# Altium footprint library BeaconBoard.PcbLib: 34 footprints (part 2 of 3)
Each footprint in its own frame and in the unit in brackets; x right, y up, seen from the top. Pads: shape width x height; smd on the part's side, far side on the other; paste and mask are expansions set on the pad; w line width, h text height; cw(c..) or ccw(c..) is an arc to the next point about the centre after c.
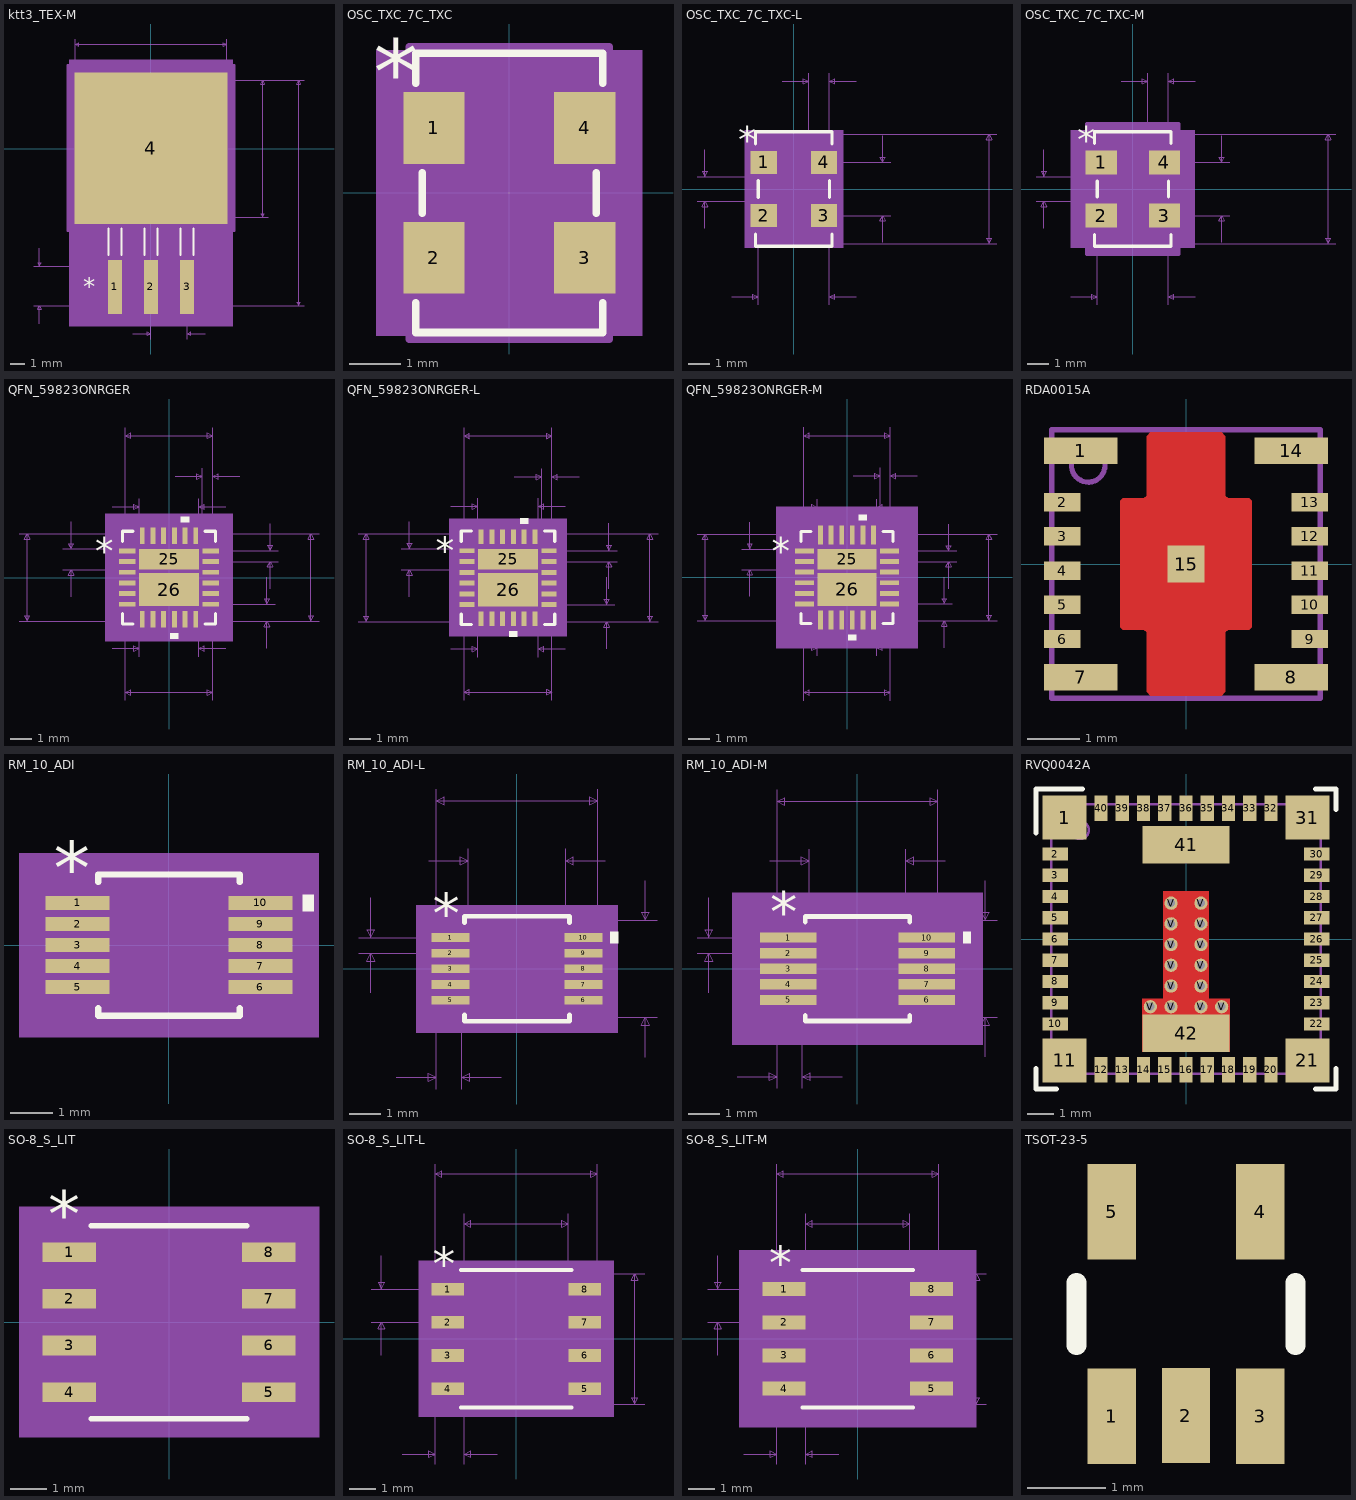
[diagram p1: the footprints below, top view; thin cyan lines are the x and y axes]

## ktt3_TEX-M [mil]
pads (4):
  rect 38x150 smd paste+0 mask+0: 1(-100,-383) 2(0,-383) 3(100,-383)
  rect 424x420 smd paste+0 mask+0: 4(0,2)
Top Overlay:
  lines w6: -118,-294 -118,-221.1 ; -82,-294 -82,-221.1 ; -18,-294 -18,-221.1 ; 18,-294 18,-221.1 ; 82,-294 82,-221.1 ; 118,-294 118,-221.1
  text "*" at -187.5,-408 h50
Mechanical 5:
  region: -227,247 227,247 227,-493 -227,-493
Mechanical 7:
  lines w1: -325,-436 0,-436 425,-436 ; -325,-326 0,-326 ; -310,-486 -310,-436 ; -310,-276 -310,-326 ; -210,0 -210,305 ; -50,-513 0,-513 ; 0,-528 0,-313 ; 0,-190 325,-190 ; 100,-528 100,-313 ; 150,-513 100,-513 ; 210,0 210,305 ; 325,190 0,190 425,190 ; -310,-436 -305,-446 -315,-446 -310,-436 ; -310,-326 -305,-316 -315,-316 -310,-326 ; -210,290 -200,285 -200,295 -210,290 ; -210,290 210,290 ; 0,-513 -10,-518 -10,-508 0,-513 ; 100,-513 110,-518 110,-508 100,-513 ; 210,290 200,285 200,295 210,290 ; 310,-190 315,-180 305,-180 310,-190 ; 310,-190 310,190 ; 310,190 315,180 305,180 310,190 ; 410,-436 415,-426 405,-426 410,-436 ; 410,-436 410,190 ; 410,190 415,180 405,180 410,190
  text "0.1in/2.54mm" at -25,-558 h25
  text "0.11in/2.794mm" at -505,-393.5 h25
  text "0.626in/15.9mm" at 430,-205.5 h25
  text "0.42in/10.668mm" at -93.75,310 h25
  text "0.38in/9.652mm" at 330,-12.5 h25
  text "Alt 2 Padstyle: OX90Y60D30P" at -337.5,-1011 h50
  text "Alt 1 Padstyle: OX60Y90D30P" at -337.5,-936 h50
  text "Large Padstyle: RX424Y420D0T" at -350,-861 h50
  text "Default Padstyle: RX38Y150D0T" at -362.5,-786 h50
Mechanical 13:
  lines w1: -210,-190 -210,190 210,190 210,-190 -210,-190 ; -118,-436 -82,-436 -82,-190 -118,-190 -118,-436 ; -18,-436 18,-436 18,-190 -18,-190 -18,-436 ; 82,-436 118,-436 118,-190 82,-190 82,-436
  text "*" at -112.5,-205 h50
Mechanical 15:
  region: -139,-228 -232,-228 -232,232 232,232 232,-228 139,-228 139,-478 -139,-478
  lines w6: -232,-228 -139,-228 -139,-478 139,-478 139,-228 232,-228 232,232 -232,232 -232,-228
3D body "ktt3_TEX.step": height 67.09, standoff -2.01, extent -209.99,-292.99 210.01,190.12
3D body: height 10, standoff 0, extent 0,0 10,10

## OSC_TXC_7C_TXC [mm]
pads (4):
  rect 1.2x1.4 smd paste+0 mask+0: 1(-1.473,1.27) 2(-1.473,-1.27) 3(1.473,-1.27) 4(1.473,1.27)
Top Overlay:
  lines w0.152: -1.829,-2.149 -1.829,-2.73 1.829,-2.73 1.829,-2.149 ; -1.829,2.149 -1.829,2.73 1.829,2.73 1.829,2.149 ; -1.702,-0.391 -1.702,0.391 ; 1.702,-0.391 1.702,0.391
  text "*" at -2.654,1.74 h1.27
Mechanical 5:
  region: 2.603,-2.794 -2.603,-2.794 -2.603,2.794 2.603,2.794
Mechanical 13:
  lines w0: -1.702,-1.765 ccw(c-1.702,-1.27) -1.702,-0.775 ; -1.702,0.775 ccw(c-1.702,1.27) -1.702,1.765 ; 1.702,-1.765 cw(c1.702,-1.27) 1.702,-0.775 ; 1.702,0.775 cw(c1.702,1.27) 1.702,1.765
  lines w0.025: -1.702,-1.765 -1.702,-2.603 1.702,-2.603 1.702,-1.765 ; -1.702,-0.775 -1.702,0.775 ; -1.702,1.765 -1.702,2.603 1.702,2.603 1.702,1.765 ; -1.702,2.349 -1.448,2.603 ; 1.702,-0.775 1.702,0.775
  text "*" at -1.384,1.105 h1.27
Mechanical 15:
  region: -1.956,-2.07 -2.413,-2.07 -2.413,2.07 -1.956,2.07 -1.956,2.857 1.956,2.857 1.956,2.07 2.413,2.07 2.413,-2.07 1.956,-2.07 1.956,-2.857 -1.956,-2.857
  lines w0.152: -2.413,-2.07 -2.413,2.07 -1.956,2.07 -1.956,2.857 1.956,2.857 1.956,2.07 2.413,2.07 2.413,-2.07 1.956,-2.07 1.956,-2.857 -1.956,-2.857 -1.956,-2.07 -2.413,-2.07
3D body: height 0.25, standoff 0, extent 0,0 0.254,0.254

## OSC_TXC_7C_TXC-L [mil]
pads (4):
  rect 49x43 smd paste+0 mask+0: 1(-56.5,50) 2(-56.5,-50) 3(56.5,-50) 4(56.5,50)
Top Overlay:
  lines w6: -72,-84.6 -72,-107.5 72,-107.5 72,-84.6 ; -72,84.6 -72,107.5 72,107.5 72,84.6 ; -67,-15.4 -67,15.4 ; 67,-15.4 67,15.4
  text "*" at -104.5,68.5 h50
Mechanical 5:
  region: 92.5,-110 -92.5,-110 -92.5,110 92.5,110
Mechanical 7:
  lines w1: -182,-23.5 -67,-23.5 ; -182,23.5 -67,23.5 ; -167,-73.5 -167,-23.5 ; -167,73.5 -167,23.5 ; -117,-202.5 -67,-202.5 ; -67,-217.5 -67,25 ; -22,202.5 28,202.5 ; 28,25 28,217.5 ; 67,-217.5 67,25 67,217.5 ; 67,-102.5 382,-102.5 ; 67,-50 182,-50 ; 67,50 182,50 ; 67,102.5 382,102.5 ; 117,-202.5 67,-202.5 ; 117,202.5 67,202.5 ; 167,-100 167,-50 ; 167,100 167,50 ; -167,-23.5 -162,-33.5 -172,-33.5 -167,-23.5 ; -167,23.5 -162,33.5 -172,33.5 -167,23.5 ; -67,-202.5 -77,-207.5 -77,-197.5 -67,-202.5 ; 28,202.5 18,197.5 18,207.5 28,202.5 ; 67,-202.5 77,-207.5 77,-197.5 67,-202.5 ; 67,202.5 77,197.5 77,207.5 67,202.5 ; 167,-50 172,-60 162,-60 167,-50 ; 167,50 172,60 162,60 167,50 ; 367,-102.5 372,-92.5 362,-92.5 367,-102.5 ; 367,-102.5 367,102.5 ; 367,102.5 372,92.5 362,92.5 367,102.5
  text "0.047in/1.194mm" at -374.5,-12.5 h25
  text "0.205in/5.207mm" at 387,-12.5 h25
  text "0.1in/2.54mm" at 187,-12.5 h25
  text "0.039in/0.991mm" at -46.25,222.5 h25
  text "0.134in/3.404mm" at -93.75,-247.5 h25
  text "Alt 2 Padstyle: OX90Y60D30P" at -337.5,-472.5 h50
  text "Alt 1 Padstyle: OX60Y90D30P" at -337.5,-412.5 h50
  text "Default Padstyle: RX49Y43D0T" at -350,-352.5 h50
Mechanical 13:
  lines w0: -67,-69.5 ccw(c-67,-50) -67,-30.5 ; -67,30.5 ccw(c-67,50) -67,69.5 ; 67,-69.5 cw(c67,-50) 67,-30.5 ; 67,30.5 cw(c67,50) 67,69.5
  lines w1: -67,-69.5 -67,-102.5 67,-102.5 67,-69.5 ; -67,-30.5 -67,30.5 ; -67,69.5 -67,102.5 67,102.5 67,69.5 ; -67,92.5 -57,102.5 ; 67,-30.5 67,30.5
  text "*" at -54.5,43.5 h50
Mechanical 15:
  region: -71,-75.5 -85,-75.5 -85,75.5 -71,75.5 -71,106.5 71,106.5 71,75.5 85,75.5 85,-75.5 71,-75.5 71,-106.5 -71,-106.5
  lines w6: -85,-75.5 -71,-75.5 -71,-106.5 71,-106.5 71,-75.5 85,-75.5 85,75.5 71,75.5 71,106.5 -71,106.5 -71,75.5 -85,75.5 -85,-75.5
3D body: height 10, standoff 0, extent 0,0 10,10

## OSC_TXC_7C_TXC-M [mil]
pads (4):
  rect 59x45 smd paste+0 mask+0: 1(-59.5,50) 2(-59.5,-50) 3(59.5,-50) 4(59.5,50)
Top Overlay:
  lines w6: -72,-85.6 -72,-107.5 72,-107.5 72,-85.6 ; -72,85.6 -72,107.5 72,107.5 72,85.6 ; -67,-14.4 -67,14.4 ; 67,-14.4 67,14.4
  text "*" at -104.5,68.5 h50
Mechanical 5:
  region: 116.5,-110 -116.5,-110 -116.5,110 116.5,110
Mechanical 7:
  lines w1: -182,-23.5 -67,-23.5 ; -182,23.5 -67,23.5 ; -167,-73.5 -167,-23.5 ; -167,73.5 -167,23.5 ; -117,-202.5 -67,-202.5 ; -67,-217.5 -67,25 ; -22,202.5 28,202.5 ; 28,25 28,217.5 ; 67,-217.5 67,25 67,217.5 ; 67,-102.5 382,-102.5 ; 67,-50 182,-50 ; 67,50 182,50 ; 67,102.5 382,102.5 ; 117,-202.5 67,-202.5 ; 117,202.5 67,202.5 ; 167,-100 167,-50 ; 167,100 167,50 ; -167,-23.5 -162,-33.5 -172,-33.5 -167,-23.5 ; -167,23.5 -162,33.5 -172,33.5 -167,23.5 ; -67,-202.5 -77,-207.5 -77,-197.5 -67,-202.5 ; 28,202.5 18,197.5 18,207.5 28,202.5 ; 67,-202.5 77,-207.5 77,-197.5 67,-202.5 ; 67,202.5 77,197.5 77,207.5 67,202.5 ; 167,-50 172,-60 162,-60 167,-50 ; 167,50 172,60 162,60 167,50 ; 367,-102.5 372,-92.5 362,-92.5 367,-102.5 ; 367,-102.5 367,102.5 ; 367,102.5 372,92.5 362,92.5 367,102.5
  text "0.047in/1.194mm" at -374.5,-12.5 h25
  text "0.205in/5.207mm" at 387,-12.5 h25
  text "0.1in/2.54mm" at 187,-12.5 h25
  text "0.039in/0.991mm" at -46.25,222.5 h25
  text "0.134in/3.404mm" at -93.75,-247.5 h25
  text "Alt 2 Padstyle: OX90Y60D30P" at -337.5,-472.5 h50
  text "Alt 1 Padstyle: OX60Y90D30P" at -337.5,-412.5 h50
  text "Default Padstyle: RX59Y45D0T" at -350,-352.5 h50
Mechanical 13:
  lines w0: -67,-69.5 ccw(c-67,-50) -67,-30.5 ; -67,30.5 ccw(c-67,50) -67,69.5 ; 67,-69.5 cw(c67,-50) 67,-30.5 ; 67,30.5 cw(c67,50) 67,69.5
  lines w1: -67,-69.5 -67,-102.5 67,-102.5 67,-69.5 ; -67,-30.5 -67,30.5 ; -67,69.5 -67,102.5 67,102.5 67,69.5 ; -67,92.5 -57,102.5 ; 67,-30.5 67,30.5
  text "*" at -54.5,43.5 h50
Mechanical 15:
  region: -87,-92.5 -109,-92.5 -109,92.5 -87,92.5 -87,122.5 87,122.5 87,92.5 109,92.5 109,-92.5 87,-92.5 87,-122.5 -87,-122.5
  lines w6: -109,-92.5 -87,-92.5 -87,-122.5 87,-122.5 87,-92.5 109,-92.5 109,92.5 87,92.5 87,122.5 -87,122.5 -87,92.5 -109,92.5 -109,-92.5
3D body: height 10, standoff 0, extent 0,0 10,10

## QFN_59823ONRGER [mm]
pads (26):
  rect 0.783x0.229 smd paste+0 mask+0: 1(-1.953,1.25) 2(-1.953,0.75) 3(-1.953,0.25) 4(-1.953,-0.25) 5(-1.953,-0.75) 6(-1.953,-1.25) 13(1.953,-1.25) 14(1.953,-0.75) 15(1.953,-0.25) 16(1.953,0.25) 17(1.953,0.75) 18(1.953,1.25)
  rect 0.229x0.783 smd paste+0 mask+0: 7(-1.25,-1.953) 8(-0.75,-1.953) 9(-0.25,-1.953) 10(0.25,-1.953) 11(0.75,-1.953) 12(1.25,-1.953) 19(1.25,1.953) 20(0.75,1.953) 21(0.25,1.953) 22(-0.25,1.953) 23(-0.75,1.953) 24(-1.25,1.953)
  rect 2.794x0.965 smd paste+0 mask+0: 25(0,0.856)
  rect 2.794x1.549 smd paste+0 mask+0: 26(0,-0.564)
Top Overlay:
  region: 0.941,2.599 0.56,2.599 0.56,2.853 0.941,2.853
  region: 0.44,-2.599 0.059,-2.599 0.059,-2.853 0.44,-2.853
  lines w0.152: -2.172,-1.697 -2.172,-2.172 -1.697,-2.172 ; -2.172,1.697 -2.172,2.172 -1.697,2.172 ; 1.697,-2.172 2.172,-2.172 2.172,-1.697 ; 1.697,2.172 2.172,2.172 2.172,1.697
  text "*" at -3.45,0.615 h1.27
Mechanical 5:
  region: 2.98,-2.98 -2.98,-2.98 -2.98,2.98 2.98,2.98
Mechanical 7:
  lines w0.025: -7.021,-2.045 2.045,-2.045 ; -7.021,2.045 2.045,2.045 2.045,-5.751 ; -4.966,0.374 -1.397,0.374 -1.397,-3.696 ; -4.966,1.339 -1.397,1.339 -1.397,3.696 ; -4.585,-0.896 -4.585,0.374 ; -4.585,2.609 -4.585,1.339 ; -2.667,-3.315 -1.397,-3.315 ; -2.667,3.315 -1.397,3.315 ; -2.045,-5.751 -2.045,2.045 ; -2.045,1.25 -2.045,7.021 ; 0.292,4.735 1.562,4.735 ; 1.25,2.045 7.021,2.045 ; 1.397,-3.696 1.397,0.374 ; 1.397,1.339 1.397,3.696 ; 1.562,1.25 1.562,5.116 ; 1.953,0.75 5.116,0.75 ; 1.953,1.25 5.116,1.25 ; 2.045,-1.25 4.966,-1.25 ; 2.045,5.116 2.045,1.25 2.045,7.021 ; 2.667,-3.315 1.397,-3.315 ; 2.667,3.315 1.397,3.315 ; 3.315,4.735 2.045,4.735 ; 4.585,-3.315 4.585,-2.045 ; 4.585,0.02 4.585,-1.25 ; 4.735,-0.52 4.735,0.75 ; 4.735,2.52 4.735,1.25 ; 4.966,-2.045 1.25,-2.045 7.021,-2.045 ; -6.64,-2.045 -6.513,-1.791 -6.767,-1.791 -6.64,-2.045 ; -6.64,-2.045 -6.64,2.045 ; -6.64,2.045 -6.513,1.791 -6.767,1.791 -6.64,2.045 ; -4.585,0.374 -4.458,0.12 -4.712,0.12 -4.585,0.374 ; -4.585,1.339 -4.458,1.593 -4.712,1.593 -4.585,1.339 ; -2.045,-5.37 -1.791,-5.497 -1.791,-5.243 -2.045,-5.37 ; -2.045,-5.37 2.045,-5.37 ; -2.045,6.64 -1.791,6.513 -1.791,6.767 -2.045,6.64 ; -2.045,6.64 2.045,6.64 ; -1.397,-3.315 -1.651,-3.442 -1.651,-3.188 -1.397,-3.315 ; -1.397,3.315 -1.651,3.188 -1.651,3.442 -1.397,3.315 ; 1.397,-3.315 1.651,-3.442 1.651,-3.188 1.397,-3.315 ; 1.397,3.315 1.651,3.188 1.651,3.442 1.397,3.315 ; 1.562,4.735 1.308,4.608 1.308,4.862 1.562,4.735 ; 2.045,-5.37 1.791,-5.497 1.791,-5.243 2.045,-5.37 ; 2.045,4.735 2.299,4.608 2.299,4.862 2.045,4.735 ; 2.045,6.64 1.791,6.513 1.791,6.767 2.045,6.64 ; 4.585,-2.045 4.712,-2.299 4.458,-2.299 4.585,-2.045 ; 4.585,-1.25 4.712,-0.996 4.458,-0.996 4.585,-1.25 ; 4.735,0.75 4.862,0.496 4.608,0.496 4.735,0.75 ; 4.735,1.25 4.862,1.504 4.608,1.504 4.735,1.25 ; 6.64,-2.045 6.767,-1.791 6.513,-1.791 6.64,-2.045 ; 6.64,-2.045 6.64,2.045 ; 6.64,2.045 6.767,1.791 6.513,1.791 6.64,2.045
  text "0.031in/0.795mm" at 2.203,-1.903 h0.64
  text "-0.11in/-2.794mm" at -2.54,3.823 h0.64
  text "0.038in/0.965mm" at -6.966,-0.508 h0.64
  text "0.11in/2.794mm" at -2.222,-4.458 h0.64
  text "0.161in/4.089mm" at -2.381,-6.513 h0.64
  text "0.161in/4.089mm" at -11.91,-0.318 h0.64
  text "0.161in/4.089mm" at 7.148,-0.318 h0.64
  text "0.161in/4.089mm" at -2.381,7.148 h0.64
  text "0.019in/0.483mm" at -0.578,5.243 h0.64
  text "0.02in/0.5mm" at 2.83,0.683 h0.64
  text "Alt 2 Padstyle: b229_152h76" at -8.572,-20.737 h1.27
  text "Alt 1 Padstyle: b152_229h76" at -8.572,-19.213 h1.27
  text "Heat Tab 2 Padstyle: r279_155" at -9.207,-11.593 h1.27
  text "Heat Tab 1 Padstyle: r279_97" at -8.89,-10.069 h1.27
  text "Default Padstyle: r23_78" at -7.62,-8.545 h1.27
Mechanical 13:
  lines w0.025: -2.045,0.775 -0.775,2.045 ; -2.045,-2.045 -2.045,2.045 2.045,2.045 2.045,-2.045 -2.045,-2.045 ; -2.045,-1.39 -2.045,-1.11 -2.045,-1.39 ; -2.045,-0.89 -2.045,-0.61 -2.045,-0.89 ; -2.045,-0.39 -2.045,-0.11 -2.045,-0.39 ; -2.045,0.11 -2.045,0.39 -2.045,0.11 ; -2.045,0.61 -2.045,0.89 -2.045,0.61 ; -2.045,1.11 -2.045,1.39 -2.045,1.11 ; -1.39,-2.045 -1.11,-2.045 -1.39,-2.045 ; -1.39,2.045 -1.11,2.045 -1.39,2.045 ; -0.89,-2.045 -0.61,-2.045 -0.89,-2.045 ; -0.89,2.045 -0.61,2.045 -0.89,2.045 ; -0.39,-2.045 -0.11,-2.045 -0.39,-2.045 ; -0.39,2.045 -0.11,2.045 -0.39,2.045 ; 0.11,-2.045 0.39,-2.045 0.11,-2.045 ; 0.11,2.045 0.39,2.045 0.11,2.045 ; 0.61,-2.045 0.89,-2.045 0.61,-2.045 ; 0.61,2.045 0.89,2.045 0.61,2.045 ; 1.11,-2.045 1.39,-2.045 1.11,-2.045 ; 1.11,2.045 1.39,2.045 1.11,2.045 ; 2.045,-1.39 2.045,-1.11 2.045,-1.39 ; 2.045,-0.89 2.045,-0.61 2.045,-0.89 ; 2.045,-0.39 2.045,-0.11 2.045,-0.39 ; 2.045,0.11 2.045,0.39 2.045,0.11 ; 2.045,0.61 2.045,0.89 2.045,0.61 ; 2.045,1.11 2.045,1.39 2.045,1.11
  text "*" at -1.092,0.615 h1.27
Mechanical 15:
  region: -1.619,-2.299 -2.299,-2.299 -2.299,-1.619 -2.599,-1.619 -2.599,1.619 -2.299,1.619 -2.299,2.299 -1.619,2.299 -1.619,2.599 1.619,2.599 1.619,2.299 2.299,2.299 2.299,1.619 2.599,1.619 2.599,-1.619 2.299,-1.619 2.299,-2.299 1.619,-2.299 1.619,-2.599 -1.619,-2.599
  lines w0.152: -2.599,-1.619 -2.599,1.619 -2.299,1.619 -2.299,2.299 -1.619,2.299 -1.619,2.599 1.619,2.599 1.619,2.299 2.299,2.299 2.299,1.619 2.599,1.619 2.599,-1.619 2.299,-1.619 2.299,-2.299 1.619,-2.299 1.619,-2.599 -1.619,-2.599 -1.619,-2.299 -2.299,-2.299 -2.299,-1.619 -2.599,-1.619
3D body "QFN_59823ONRGER.step": height 0.99, standoff 0, extent -2.045,-2.045 2.045,2.045
3D body: height 0.25, standoff 0, extent 0,0 0.254,0.254

## QFN_59823ONRGER-L [mm]
pads (26):
  rect 0.683x0.229 smd paste+0 mask+0: 1(-3811.903,-3808.75) 2(-3811.903,-3809.25) 3(-3811.903,-3809.75) 4(-3811.903,-3810.25) 5(-3811.903,-3810.75) 6(-3811.903,-3811.25) 13(-3808.097,-3811.25) 14(-3808.097,-3810.75) 15(-3808.097,-3810.25) 16(-3808.097,-3809.75) 17(-3808.097,-3809.25) 18(-3808.097,-3808.75)
  rect 0.229x0.683 smd paste+0 mask+0: 7(-3811.25,-3811.903) 8(-3810.75,-3811.903) 9(-3810.25,-3811.903) 10(-3809.75,-3811.903) 11(-3809.25,-3811.903) 12(-3808.75,-3811.903) 19(-3808.75,-3808.097) 20(-3809.25,-3808.097) 21(-3809.75,-3808.097) 22(-3810.25,-3808.097) 23(-3810.75,-3808.097) 24(-3811.25,-3808.097)
  rect 2.794x0.965 smd paste+0 mask+0: 25(-3810,-3809.144)
  rect 2.794x1.549 smd paste+0 mask+0: 26(-3810,-3810.564)
Top Overlay:
  region: -3809.059,-3807.501 -3809.44,-3807.501 -3809.44,-3807.247 -3809.059,-3807.247
  region: -3809.56,-3812.499 -3809.941,-3812.499 -3809.941,-3812.753 -3809.56,-3812.753
  lines w0.152: -3812.172,-3811.697 -3812.172,-3812.172 -3811.697,-3812.172 ; -3812.172,-3808.303 -3812.172,-3807.828 -3811.697,-3807.828 ; -3808.303,-3812.172 -3807.828,-3812.172 -3807.828,-3811.697 ; -3808.303,-3807.828 -3807.828,-3807.828 -3807.828,-3808.303
  text "*" at -3813.35,-3809.385 h1.27
Mechanical 5:
  region: -3807.273,-3812.727 -3812.727,-3812.727 -3812.727,-3807.273 -3807.273,-3807.273
Mechanical 7:
  lines w0.025: -3816.971,-3812.045 -3807.955,-3812.045 ; -3816.971,-3807.955 -3807.955,-3807.955 -3807.955,-3815.701 ; -3814.966,-3809.626 -3811.397,-3809.626 -3811.397,-3813.696 ; -3814.966,-3808.661 -3811.397,-3808.661 -3811.397,-3806.304 ; -3814.585,-3810.896 -3814.585,-3809.626 ; -3814.585,-3807.391 -3814.585,-3808.661 ; -3812.667,-3813.315 -3811.397,-3813.315 ; -3812.667,-3806.685 -3811.397,-3806.685 ; -3812.045,-3815.701 -3812.045,-3807.955 ; -3812.045,-3808.75 -3812.045,-3803.029 ; -3809.708,-3805.315 -3808.438,-3805.315 ; -3808.75,-3807.955 -3803.029,-3807.955 ; -3808.603,-3813.696 -3808.603,-3809.626 ; -3808.603,-3808.661 -3808.603,-3806.304 ; -3808.438,-3808.75 -3808.438,-3804.934 ; -3808.097,-3809.25 -3804.934,-3809.25 ; -3808.097,-3808.75 -3804.934,-3808.75 ; -3807.955,-3811.25 -3805.034,-3811.25 ; -3807.955,-3804.934 -3807.955,-3808.75 -3807.955,-3803.029 ; -3807.333,-3813.315 -3808.603,-3813.315 ; -3807.333,-3806.685 -3808.603,-3806.685 ; -3806.685,-3805.315 -3807.955,-3805.315 ; -3805.415,-3813.315 -3805.415,-3812.045 ; -3805.415,-3809.98 -3805.415,-3811.25 ; -3805.315,-3810.52 -3805.315,-3809.25 ; -3805.315,-3807.48 -3805.315,-3808.75 ; -3805.034,-3812.045 -3808.75,-3812.045 -3803.029,-3812.045 ; -3816.59,-3812.045 -3816.463,-3811.791 -3816.717,-3811.791 -3816.59,-3812.045 ; -3816.59,-3812.045 -3816.59,-3807.955 ; -3816.59,-3807.955 -3816.463,-3808.209 -3816.717,-3808.209 -3816.59,-3807.955 ; -3814.585,-3809.626 -3814.458,-3809.88 -3814.712,-3809.88 -3814.585,-3809.626 ; -3814.585,-3808.661 -3814.458,-3808.407 -3814.712,-3808.407 -3814.585,-3808.661 ; -3812.045,-3815.32 -3811.791,-3815.447 -3811.791,-3815.193 -3812.045,-3815.32 ; -3812.045,-3815.32 -3807.955,-3815.32 ; -3812.045,-3803.41 -3811.791,-3803.537 -3811.791,-3803.283 -3812.045,-3803.41 ; -3812.045,-3803.41 -3807.955,-3803.41 ; -3811.397,-3813.315 -3811.651,-3813.442 -3811.651,-3813.188 -3811.397,-3813.315 ; -3811.397,-3806.685 -3811.651,-3806.812 -3811.651,-3806.558 -3811.397,-3806.685 ; -3808.603,-3813.315 -3808.349,-3813.442 -3808.349,-3813.188 -3808.603,-3813.315 ; -3808.603,-3806.685 -3808.349,-3806.812 -3808.349,-3806.558 -3808.603,-3806.685 ; -3808.438,-3805.315 -3808.692,-3805.442 -3808.692,-3805.188 -3808.438,-3805.315 ; -3807.955,-3815.32 -3808.209,-3815.447 -3808.209,-3815.193 -3807.955,-3815.32 ; -3807.955,-3805.315 -3807.701,-3805.442 -3807.701,-3805.188 -3807.955,-3805.315 ; -3807.955,-3803.41 -3808.209,-3803.537 -3808.209,-3803.283 -3807.955,-3803.41 ; -3805.415,-3812.045 -3805.288,-3812.299 -3805.542,-3812.299 -3805.415,-3812.045 ; -3805.415,-3811.25 -3805.288,-3810.996 -3805.542,-3810.996 -3805.415,-3811.25 ; -3805.315,-3809.25 -3805.188,-3809.504 -3805.442,-3809.504 -3805.315,-3809.25 ; -3805.315,-3808.75 -3805.188,-3808.496 -3805.442,-3808.496 -3805.315,-3808.75 ; -3803.41,-3812.045 -3803.283,-3811.791 -3803.537,-3811.791 -3803.41,-3812.045 ; -3803.41,-3812.045 -3803.41,-3807.955 ; -3803.41,-3807.955 -3803.283,-3808.209 -3803.537,-3808.209 -3803.41,-3807.955
  text "0.031in/0.795mm" at -3807.797,-3811.853 h0.64
  text "-0.11in/-2.794mm" at -3812.54,-3806.177 h0.64
  text "0.038in/0.965mm" at -3816.966,-3810.508 h0.64
  text "0.11in/2.794mm" at -3812.222,-3814.458 h0.64
  text "0.161in/4.089mm" at -3812.381,-3816.463 h0.64
  text "0.161in/4.089mm" at -3821.86,-3810.317 h0.64
  text "0.161in/4.089mm" at -3802.902,-3810.317 h0.64
  text "0.161in/4.089mm" at -3812.381,-3802.902 h0.64
  text "0.019in/0.483mm" at -3810.578,-3804.807 h0.64
  text "0.02in/0.5mm" at -3807.22,-3809.317 h0.64
  text "Alt 2 Padstyle: b229_152h76" at -3818.572,-3830.687 h1.27
  text "Alt 1 Padstyle: b152_229h76" at -3818.572,-3829.163 h1.27
  text "Heat Tab 2 Padstyle: r279_155" at -3819.207,-3821.543 h1.27
  text "Heat Tab 1 Padstyle: r279_97" at -3818.89,-3820.019 h1.27
  text "Default Padstyle: r23_68" at -3817.62,-3818.495 h1.27
Mechanical 13:
  lines w0.025: -3812.045,-3809.225 -3810.775,-3807.955 ; -3812.045,-3812.045 -3812.045,-3807.955 -3807.955,-3807.955 -3807.955,-3812.045 -3812.045,-3812.045 ; -3812.045,-3811.39 -3812.045,-3811.11 -3812.045,-3811.39 ; -3812.045,-3810.89 -3812.045,-3810.61 -3812.045,-3810.89 ; -3812.045,-3810.39 -3812.045,-3810.11 -3812.045,-3810.39 ; -3812.045,-3809.89 -3812.045,-3809.61 -3812.045,-3809.89 ; -3812.045,-3809.39 -3812.045,-3809.11 -3812.045,-3809.39 ; -3812.045,-3808.89 -3812.045,-3808.61 -3812.045,-3808.89 ; -3811.39,-3812.045 -3811.11,-3812.045 -3811.39,-3812.045 ; -3811.39,-3807.955 -3811.11,-3807.955 -3811.39,-3807.955 ; -3810.89,-3812.045 -3810.61,-3812.045 -3810.89,-3812.045 ; -3810.89,-3807.955 -3810.61,-3807.955 -3810.89,-3807.955 ; -3810.39,-3812.045 -3810.11,-3812.045 -3810.39,-3812.045 ; -3810.39,-3807.955 -3810.11,-3807.955 -3810.39,-3807.955 ; -3809.89,-3812.045 -3809.61,-3812.045 -3809.89,-3812.045 ; -3809.89,-3807.955 -3809.61,-3807.955 -3809.89,-3807.955 ; -3809.39,-3812.045 -3809.11,-3812.045 -3809.39,-3812.045 ; -3809.39,-3807.955 -3809.11,-3807.955 -3809.39,-3807.955 ; -3808.89,-3812.045 -3808.61,-3812.045 -3808.89,-3812.045 ; -3808.89,-3807.955 -3808.61,-3807.955 -3808.89,-3807.955 ; -3807.955,-3811.39 -3807.955,-3811.11 -3807.955,-3811.39 ; -3807.955,-3810.89 -3807.955,-3810.61 -3807.955,-3810.89 ; -3807.955,-3810.39 -3807.955,-3810.11 -3807.955,-3810.39 ; -3807.955,-3809.89 -3807.955,-3809.61 -3807.955,-3809.89 ; -3807.955,-3809.39 -3807.955,-3809.11 -3807.955,-3809.39 ; -3807.955,-3808.89 -3807.955,-3808.61 -3807.955,-3808.89
  text "*" at -3811.092,-3809.385 h1.27
Mechanical 15:
  region: -3811.466,-3812.146 -3812.146,-3812.146 -3812.146,-3811.466 -3812.346,-3811.466 -3812.346,-3808.534 -3812.146,-3808.534 -3812.146,-3807.854 -3811.466,-3807.854 -3811.466,-3807.654 -3808.534,-3807.654 -3808.534,-3807.854 -3807.854,-3807.854 -3807.854,-3808.534 -3807.654,-3808.534 -3807.654,-3811.466 -3807.854,-3811.466 -3807.854,-3812.146 -3808.534,-3812.146 -3808.534,-3812.346 -3811.466,-3812.346
  lines w0.152: -3812.346,-3811.466 -3812.346,-3808.534 -3812.146,-3808.534 -3812.146,-3807.854 -3811.466,-3807.854 -3811.466,-3807.654 -3808.534,-3807.654 -3808.534,-3807.854 -3807.854,-3807.854 -3807.854,-3808.534 -3807.654,-3808.534 -3807.654,-3811.466 -3807.854,-3811.466 -3807.854,-3812.146 -3808.534,-3812.146 -3808.534,-3812.346 -3811.466,-3812.346 -3811.466,-3812.146 -3812.146,-3812.146 -3812.146,-3811.466 -3812.346,-3811.466
3D body: height 0.25, standoff 0, extent -3810,-3810 -3809.746,-3809.746
3D body "QFN_59823ONRGER.step": height 0.99, standoff 0, extent -3812.045,-3812.045 -3807.955,-3807.955

## QFN_59823ONRGER-M [mm]
pads (26):
  rect 0.883x0.229 smd paste+0 mask+0: 1(-2.003,1.25) 2(-2.003,0.75) 3(-2.003,0.25) 4(-2.003,-0.25) 5(-2.003,-0.75) 6(-2.003,-1.25) 13(2.003,-1.25) 14(2.003,-0.75) 15(2.003,-0.25) 16(2.003,0.25) 17(2.003,0.75) 18(2.003,1.25)
  rect 0.229x0.883 smd paste+0 mask+0: 7(-1.25,-2.003) 8(-0.75,-2.003) 9(-0.25,-2.003) 10(0.25,-2.003) 11(0.75,-2.003) 12(1.25,-2.003) 19(1.25,2.003) 20(0.75,2.003) 21(0.25,2.003) 22(-0.25,2.003) 23(-0.75,2.003) 24(-1.25,2.003)
  rect 2.794x0.965 smd paste+0 mask+0: 25(0,0.856)
  rect 2.794x1.549 smd paste+0 mask+0: 26(0,-0.564)
Top Overlay:
  region: 0.941,2.699 0.56,2.699 0.56,2.953 0.941,2.953
  region: 0.44,-2.699 0.059,-2.699 0.059,-2.953 0.44,-2.953
  lines w0.152: -2.172,-1.697 -2.172,-2.172 -1.697,-2.172 ; -2.172,1.697 -2.172,2.172 -1.697,2.172 ; 1.697,-2.172 2.172,-2.172 2.172,-1.697 ; 1.697,2.172 2.172,2.172 2.172,1.697
  text "*" at -3.55,0.615 h1.27
Mechanical 5:
  region: 3.334,-3.334 -3.334,-3.334 -3.334,3.334 3.334,3.334
Mechanical 7:
  lines w0.025: -7.071,-2.045 2.045,-2.045 ; -7.071,2.045 2.045,2.045 2.045,-5.801 ; -4.966,0.374 -1.397,0.374 -1.397,-3.696 ; -4.966,1.339 -1.397,1.339 -1.397,3.696 ; -4.585,-0.896 -4.585,0.374 ; -4.585,2.609 -4.585,1.339 ; -2.667,-3.315 -1.397,-3.315 ; -2.667,3.315 -1.397,3.315 ; -2.045,-5.801 -2.045,2.045 ; -2.045,1.25 -2.045,7.071 ; 0.292,4.785 1.562,4.785 ; 1.25,2.045 7.071,2.045 ; 1.397,-3.696 1.397,0.374 ; 1.397,1.339 1.397,3.696 ; 1.562,1.25 1.562,5.166 ; 2.003,0.75 5.166,0.75 ; 2.003,1.25 5.166,1.25 ; 2.045,-1.25 4.966,-1.25 ; 2.045,5.166 2.045,1.25 2.045,7.071 ; 2.667,-3.315 1.397,-3.315 ; 2.667,3.315 1.397,3.315 ; 3.315,4.785 2.045,4.785 ; 4.585,-3.315 4.585,-2.045 ; 4.585,0.02 4.585,-1.25 ; 4.785,-0.52 4.785,0.75 ; 4.785,2.52 4.785,1.25 ; 4.966,-2.045 1.25,-2.045 7.071,-2.045 ; -6.69,-2.045 -6.563,-1.791 -6.817,-1.791 -6.69,-2.045 ; -6.69,-2.045 -6.69,2.045 ; -6.69,2.045 -6.563,1.791 -6.817,1.791 -6.69,2.045 ; -4.585,0.374 -4.458,0.12 -4.712,0.12 -4.585,0.374 ; -4.585,1.339 -4.458,1.593 -4.712,1.593 -4.585,1.339 ; -2.045,-5.42 -1.791,-5.547 -1.791,-5.293 -2.045,-5.42 ; -2.045,-5.42 2.045,-5.42 ; -2.045,6.69 -1.791,6.563 -1.791,6.817 -2.045,6.69 ; -2.045,6.69 2.045,6.69 ; -1.397,-3.315 -1.651,-3.442 -1.651,-3.188 -1.397,-3.315 ; -1.397,3.315 -1.651,3.188 -1.651,3.442 -1.397,3.315 ; 1.397,-3.315 1.651,-3.442 1.651,-3.188 1.397,-3.315 ; 1.397,3.315 1.651,3.188 1.651,3.442 1.397,3.315 ; 1.562,4.785 1.308,4.658 1.308,4.912 1.562,4.785 ; 2.045,-5.42 1.791,-5.547 1.791,-5.293 2.045,-5.42 ; 2.045,4.785 2.299,4.658 2.299,4.912 2.045,4.785 ; 2.045,6.69 1.791,6.563 1.791,6.817 2.045,6.69 ; 4.585,-2.045 4.712,-2.299 4.458,-2.299 4.585,-2.045 ; 4.585,-1.25 4.712,-0.996 4.458,-0.996 4.585,-1.25 ; 4.785,0.75 4.912,0.496 4.658,0.496 4.785,0.75 ; 4.785,1.25 4.912,1.504 4.658,1.504 4.785,1.25 ; 6.69,-2.045 6.817,-1.791 6.563,-1.791 6.69,-2.045 ; 6.69,-2.045 6.69,2.045 ; 6.69,2.045 6.817,1.791 6.563,1.791 6.69,2.045
  text "0.031in/0.795mm" at 2.203,-1.953 h0.64
  text "-0.11in/-2.794mm" at -2.54,3.823 h0.64
  text "0.038in/0.965mm" at -6.966,-0.508 h0.64
  text "0.11in/2.794mm" at -2.222,-4.458 h0.64
  text "0.161in/4.089mm" at -2.381,-6.563 h0.64
  text "0.161in/4.089mm" at -11.96,-0.318 h0.64
  text "0.161in/4.089mm" at 7.198,-0.318 h0.64
  text "0.161in/4.089mm" at -2.381,7.198 h0.64
  text "0.019in/0.483mm" at -0.578,5.293 h0.64
  text "0.02in/0.5mm" at 2.88,0.683 h0.64
  text "Alt 2 Padstyle: b229_152h76" at -8.572,-20.787 h1.27
  text "Alt 1 Padstyle: b152_229h76" at -8.572,-19.263 h1.27
  text "Heat Tab 2 Padstyle: r279_155" at -9.207,-11.643 h1.27
  text "Heat Tab 1 Padstyle: r279_97" at -8.89,-10.119 h1.27
  text "Default Padstyle: r23_88" at -7.62,-8.595 h1.27
Mechanical 13:
  lines w0.025: -2.045,0.775 -0.775,2.045 ; -2.045,-2.045 -2.045,2.045 2.045,2.045 2.045,-2.045 -2.045,-2.045 ; -2.045,-1.39 -2.045,-1.11 -2.045,-1.39 ; -2.045,-0.89 -2.045,-0.61 -2.045,-0.89 ; -2.045,-0.39 -2.045,-0.11 -2.045,-0.39 ; -2.045,0.11 -2.045,0.39 -2.045,0.11 ; -2.045,0.61 -2.045,0.89 -2.045,0.61 ; -2.045,1.11 -2.045,1.39 -2.045,1.11 ; -1.39,-2.045 -1.11,-2.045 -1.39,-2.045 ; -1.39,2.045 -1.11,2.045 -1.39,2.045 ; -0.89,-2.045 -0.61,-2.045 -0.89,-2.045 ; -0.89,2.045 -0.61,2.045 -0.89,2.045 ; -0.39,-2.045 -0.11,-2.045 -0.39,-2.045 ; -0.39,2.045 -0.11,2.045 -0.39,2.045 ; 0.11,-2.045 0.39,-2.045 0.11,-2.045 ; 0.11,2.045 0.39,2.045 0.11,2.045 ; 0.61,-2.045 0.89,-2.045 0.61,-2.045 ; 0.61,2.045 0.89,2.045 0.61,2.045 ; 1.11,-2.045 1.39,-2.045 1.11,-2.045 ; 1.11,2.045 1.39,2.045 1.11,2.045 ; 2.045,-1.39 2.045,-1.11 2.045,-1.39 ; 2.045,-0.89 2.045,-0.61 2.045,-0.89 ; 2.045,-0.39 2.045,-0.11 2.045,-0.39 ; 2.045,0.11 2.045,0.39 2.045,0.11 ; 2.045,0.61 2.045,0.89 2.045,0.61 ; 2.045,1.11 2.045,1.39 2.045,1.11
  text "*" at -1.092,0.615 h1.27
Mechanical 15:
  region: -1.873,-2.553 -2.553,-2.553 -2.553,-1.873 -2.953,-1.873 -2.953,1.873 -2.553,1.873 -2.553,2.553 -1.873,2.553 -1.873,2.953 1.873,2.953 1.873,2.553 2.553,2.553 2.553,1.873 2.953,1.873 2.953,-1.873 2.553,-1.873 2.553,-2.553 1.873,-2.553 1.873,-2.953 -1.873,-2.953
  lines w0.152: -2.953,-1.873 -2.953,1.873 -2.553,1.873 -2.553,2.553 -1.873,2.553 -1.873,2.953 1.873,2.953 1.873,2.553 2.553,2.553 2.553,1.873 2.953,1.873 2.953,-1.873 2.553,-1.873 2.553,-2.553 1.873,-2.553 1.873,-2.953 -1.873,-2.953 -1.873,-2.553 -2.553,-2.553 -2.553,-1.873 -2.953,-1.873
3D body "QFN_59823ONRGER.step": height 0.99, standoff 0, extent -2.045,-2.045 2.045,2.045
3D body: height 0.25, standoff 0, extent 0,0 0.254,0.254

## RDA0015A [mm]
pads (15):
  rect 1.4x0.5 smd paste+0 mask+0.051: 1(-2,2.15) 7(-2,-2.15) 8(2,-2.15) 14(2,2.15)
  rect 0.7x0.35 smd paste+0 mask+0.051: 2(-2.35,1.175) 3(-2.35,0.525) 4(-2.35,-0.125) 5(-2.35,-0.775) 6(-2.35,-1.425) 9(2.35,-1.425) 10(2.35,-0.775) 11(2.35,-0.125) 12(2.35,0.525) 13(2.35,1.175)
  rect 0.7x0.7 smd paste-0.337 mask+0.051: 15(0,0)
Top Layer:
  region: -1.25,-1.2 -1.2,-1.25 -0.8,-1.25 -0.75,-1.3 -0.75,-2.425 -0.676,-2.499 0.676,-2.499 0.75,-2.425 0.75,-1.3 0.8,-1.25 1.2,-1.25 1.25,-1.2 1.25,1.2 1.2,1.25 0.8,1.25 0.75,1.3 0.75,2.425 0.676,2.499 -0.676,2.499 -0.75,2.425 -0.75,1.3 -0.8,1.25 -1.2,1.25 -1.25,1.2
Top Paste:
  region: -0.2,2 -0.25,2.05 -0.25,2.45 -0.2,2.5 0.2,2.5 0.25,2.45 0.25,2.05 0.2,2
  region: -0.75,1.8 -0.75,1.1 -0.7,1.05 0.7,1.05 0.75,1.1 0.75,1.8 0.7,1.85 -0.7,1.85
  region: -1.25,0.8 -1.25,0.15 -1.2,0.1 1.2,0.1 1.25,0.15 1.25,0.8 1.2,0.85 -1.2,0.85
  region: -1.25,-0.15 -1.25,-0.8 -1.2,-0.85 1.2,-0.85 1.25,-0.8 1.25,-0.15 1.2,-0.1 -1.2,-0.1
  region: -0.75,-1.1 -0.75,-1.8 -0.7,-1.85 0.7,-1.85 0.75,-1.8 0.75,-1.1 0.7,-1.05 -0.7,-1.05
  region: -0.2,-2.5 -0.25,-2.45 -0.25,-2.05 -0.2,-2 0.2,-2 0.25,-2.05 0.25,-2.45 0.2,-2.5
Top Solder:
  region: -1.228,-1.292 -1.236,-1.286 -1.286,-1.236 -1.292,-1.228 -1.297,-1.219 -1.3,-1.21 -1.301,-1.2 -1.301,1.2 -1.3,1.21 -1.297,1.219 -1.292,1.228 -1.286,1.236 -1.236,1.286 -1.228,1.292 -1.219,1.297 -1.21,1.3 -1.2,1.301 -0.821,1.301 -0.801,1.321 -0.801,1.95 -0.8,1.96 -0.797,1.969 -0.792,1.978 -0.786,1.986 -0.736,2.036 -0.728,2.042 -0.719,2.047 -0.71,2.05 -0.7,2.051 -0.321,2.051 -0.301,2.071 -0.301,2.449 -0.3,2.459 -0.297,2.468 -0.292,2.477 -0.286,2.485 -0.236,2.535 -0.228,2.541 -0.219,2.546 -0.21,2.549 -0.2,2.55 0.2,2.55 0.21,2.549 0.219,2.546 0.228,2.541 0.236,2.535 0.286,2.485 0.292,2.477 0.297,2.468 0.3,2.459 0.301,2.449 0.301,2.071 0.321,2.051 0.7,2.051 0.71,2.05 0.719,2.047 0.728,2.042 0.736,2.036 0.786,1.986 0.792,1.978 0.797,1.969 0.8,1.96 0.801,1.95 0.801,1.321 0.821,1.301 1.2,1.301 1.21,1.3 1.219,1.297 1.228,1.292 1.236,1.286 1.286,1.236 1.292,1.228 1.297,1.219 1.3,1.21 1.301,1.2 1.301,-1.2 1.3,-1.21 1.297,-1.219 1.292,-1.228 1.286,-1.236 1.236,-1.286 1.228,-1.292 1.219,-1.297 1.21,-1.3 1.2,-1.301 0.821,-1.301 0.801,-1.321 0.801,-1.95 0.8,-1.96 0.797,-1.969 0.792,-1.978 0.786,-1.986 0.736,-2.036 0.728,-2.042 0.719,-2.047 0.71,-2.05 0.7,-2.051 0.321,-2.051 0.301,-2.071 0.301,-2.449 0.3,-2.459 0.297,-2.468 0.292,-2.477 0.286,-2.485 0.236,-2.535 0.228,-2.541 0.219,-2.546 0.21,-2.549 0.2,-2.55 -0.2,-2.55 -0.21,-2.549 -0.219,-2.546 -0.228,-2.541 -0.236,-2.535 -0.286,-2.485 -0.292,-2.477 -0.297,-2.468 -0.3,-2.459 -0.301,-2.449 -0.301,-2.071 -0.321,-2.051 -0.7,-2.051 -0.71,-2.05 -0.719,-2.047 -0.728,-2.042 -0.736,-2.036 -0.786,-1.986 -0.792,-1.978 -0.797,-1.969 -0.8,-1.96 -0.801,-1.95 -0.801,-1.321 -0.821,-1.301 -1.2,-1.301 -1.21,-1.3 -1.219,-1.297
Mechanical 13:
  circle w0.1: c-1.858,1.872 r0.318
  lines w0.1: -2.55,-2.55 -2.55,2.55 2.55,2.55 2.55,-2.55 -2.55,-2.55
3D body "RDA0015A.stp": height 4.1, standoff 0, extent -2.475,-2.75 2.526,2.75
3D body: height 0.25, standoff 0, extent 0,0 0.254,0.254

## RM_10_ADI [mil]
pads (10):
  rect 59.56x13 smd paste+0 mask+0: 1(-85.5,39.37) 2(-85.5,19.68) 3(-85.5,0) 4(-85.5,-19.68) 5(-85.5,-39.37) 6(85.5,-39.37) 7(85.5,-19.68) 8(85.5,0) 9(85.5,19.68) 10(85.5,39.37)
Top Overlay:
  region: 125.28,46.87 135.28,46.87 135.28,31.87 125.28,31.87
  lines w6: -66,-58.97 -66,-66 66,-66 66,-58.97 ; -66,58.97 -66,66 66,66 66,58.97
  text "*" at -108,47.37 h50
Mechanical 5:
  region: 140.28,-86 -140.28,-86 -140.28,86 140.28,86
Mechanical 13:
  lines w0: -12,61 ccw(c0,61) 12,61
  lines w1: -101.5,-45.87 -61,-45.87 -61,-32.87 -101.5,-32.87 -101.5,-45.87 ; -101.5,-26.18 -61,-26.18 -61,-13.19 -101.5,-13.19 -101.5,-26.18 ; -101.5,-6.5 -61,-6.5 -61,6.5 -101.5,6.5 -101.5,-6.5 ; -101.5,13.19 -61,13.19 -61,26.18 -101.5,26.18 -101.5,13.19 ; -101.5,32.87 -61,32.87 -61,45.87 -101.5,45.87 -101.5,32.87 ; -61,-61 -61,61 61,61 61,-61 -61,-61 ; 61,-45.87 101.5,-45.87 101.5,-32.87 61,-32.87 61,-45.87 ; 61,-26.18 101.5,-26.18 101.5,-13.19 61,-13.19 61,-26.18 ; 61,-6.5 101.5,-6.5 101.5,6.5 61,6.5 61,-6.5 ; 61,13.19 101.5,13.19 101.5,26.18 61,26.18 61,13.19 ; 61,32.87 101.5,32.87 101.5,45.87 61,45.87 61,32.87
  text "*" at -58.5,8 h50
Mechanical 15:
  region: -71,-55.87 -125.28,-55.87 -125.28,55.87 -71,55.87 -71,71 71,71 71,55.87 125.28,55.87 125.28,-55.87 71,-55.87 71,-71 -71,-71
  lines w6: -125.28,-55.87 -71,-55.87 -71,-71 71,-71 71,-55.87 125.28,-55.87 125.28,55.87 71,55.87 71,71 -71,71 -71,55.87 -125.28,55.87 -125.28,-55.87
3D body "RM_10_ADI.step": height 43.11, standoff 0, extent -101.5,-60.99 101.5,60.98
3D body: height 10, standoff 0, extent 0,0 10,10

## RM_10_ADI-L [mm]
pads (10):
  rect 1.213x0.28 smd paste+0 mask+0: 1(-2.122,1) 2(-2.122,0.5) 3(-2.122,0) 4(-2.122,-0.5) 5(-2.122,-1) 6(2.122,-1) 7(2.122,-0.5) 8(2.122,0) 9(2.122,0.5) 10(2.122,1)
Top Overlay:
  region: 2.982,1.191 3.236,1.191 3.236,0.81 2.982,0.81
  lines w0.152: -1.676,-1.473 -1.676,-1.676 1.676,-1.676 1.676,-1.473 ; -1.676,1.473 -1.676,1.676 1.676,1.676 1.676,1.473
  text "*" at -2.693,1.153 h1.27
Mechanical 5:
  region: 3.211,-2.032 -3.211,-2.032 -3.211,2.032 3.211,2.032
Mechanical 7:
  lines w0.025: -5.043,0.5 -2.122,0.5 ; -5.043,1 -2.122,1 ; -4.662,-0.77 -4.662,0.5 ; -4.662,2.27 -4.662,1 ; -3.848,-3.454 -2.578,-3.454 ; -2.819,3.454 -1.549,3.454 ; -2.578,-3.835 -2.578,0 -2.578,5.74 ; -1.765,-3.835 -1.765,0 ; -1.549,0 -1.549,3.835 ; -0.495,-3.454 -1.765,-3.454 ; 0,-1.549 4.47,-1.549 ; 0,1.549 4.47,1.549 ; 1.549,0 1.549,3.835 ; 2.578,0 2.578,5.74 ; 2.819,3.454 1.549,3.454 ; 4.089,-2.819 4.089,-1.549 ; 4.089,2.819 4.089,1.549 ; -4.662,0.5 -4.535,0.246 -4.789,0.246 -4.662,0.5 ; -4.662,1 -4.535,1.254 -4.789,1.254 -4.662,1 ; -2.578,-3.454 -2.832,-3.581 -2.832,-3.327 -2.578,-3.454 ; -2.578,5.359 -2.324,5.232 -2.324,5.486 -2.578,5.359 ; -2.578,5.359 2.578,5.359 ; -1.765,-3.454 -1.511,-3.581 -1.511,-3.327 -1.765,-3.454 ; -1.549,3.454 -1.803,3.327 -1.803,3.581 -1.549,3.454 ; 1.549,3.454 1.803,3.327 1.803,3.581 1.549,3.454 ; 2.578,5.359 2.324,5.232 2.324,5.486 2.578,5.359 ; 4.089,-1.549 4.216,-1.803 3.962,-1.803 4.089,-1.549 ; 4.089,1.549 4.216,1.803 3.962,1.803 4.089,1.549
  text "0.032in/0.813mm" at -4.553,-4.597 h0.64
  text "0.02in/0.5mm" at -8.98,0.433 h0.64
  text "0.122in/3.099mm" at 4.597,-0.318 h0.64
  text "0.203in/5.156mm" at -2.381,5.867 h0.64
  text "0.122in/3.099mm" at -2.381,3.962 h0.64
  text "Alt 2 Padstyle: b229_152h76" at -8.572,-14.249 h1.27
  text "Alt 1 Padstyle: b152_229h76" at -8.572,-12.725 h1.27
  text "Pin One Padstyle: r121_28" at -7.938,-8.153 h1.27
  text "Default Padstyle: r121_28" at -7.938,-6.629 h1.27
Mechanical 13:
  lines w0: -0.305,1.549 ccw(c0,1.549) 0.305,1.549
  lines w0.025: -2.578,-1.165 -1.549,-1.165 -1.549,-0.835 -2.578,-0.835 -2.578,-1.165 ; -2.578,-0.665 -1.549,-0.665 -1.549,-0.335 -2.578,-0.335 -2.578,-0.665 ; -2.578,-0.165 -1.549,-0.165 -1.549,0.165 -2.578,0.165 -2.578,-0.165 ; -2.578,0.335 -1.549,0.335 -1.549,0.665 -2.578,0.665 -2.578,0.335 ; -2.578,0.835 -1.549,0.835 -1.549,1.165 -2.578,1.165 -2.578,0.835 ; -1.549,-1.549 -1.549,1.549 1.549,1.549 1.549,-1.549 -1.549,-1.549 ; 1.549,-1.165 2.578,-1.165 2.578,-0.835 1.549,-0.835 1.549,-1.165 ; 1.549,-0.665 2.578,-0.665 2.578,-0.335 1.549,-0.335 1.549,-0.665 ; 1.549,-0.165 2.578,-0.165 2.578,0.165 1.549,0.165 1.549,-0.165 ; 1.549,0.335 2.578,0.335 2.578,0.665 1.549,0.665 1.549,0.335 ; 1.549,0.835 2.578,0.835 2.578,1.165 1.549,1.165 1.549,0.835
  text "*" at -1.486,0.203 h1.27
Mechanical 15:
  region: -1.651,-1.242 -2.83,-1.242 -2.83,1.242 -1.651,1.242 -1.651,1.651 1.651,1.651 1.651,1.242 2.83,1.242 2.83,-1.242 1.651,-1.242 1.651,-1.651 -1.651,-1.651
  lines w0.152: -2.83,-1.242 -1.651,-1.242 -1.651,-1.651 1.651,-1.651 1.651,-1.242 2.83,-1.242 2.83,1.242 1.651,1.242 1.651,1.651 -1.651,1.651 -1.651,1.242 -2.83,1.242 -2.83,-1.242
3D body "RM_10_ADI.step": height 1.09, standoff 0, extent -2.578,-1.549 2.578,1.549
3D body: height 0.25, standoff 0, extent 0,0 0.254,0.254

## RM_10_ADI-M [mil]
pads (10):
  rect 71.37x13 smd paste+0 mask+0: 1(-87.47,39.37) 2(-87.47,19.68) 3(-87.47,0) 4(-87.47,-19.68) 5(-87.47,-39.37) 6(87.47,-39.37) 7(87.47,-19.68) 8(87.47,0) 9(87.47,19.68) 10(87.47,39.37)
Top Overlay:
  region: 133.15,46.87 143.15,46.87 143.15,31.87 133.15,31.87
  lines w6: -66,-58.97 -66,-66 66,-66 66,-58.97 ; -66,58.97 -66,66 66,66 66,58.97
  text "*" at -109.97,47.37 h50
Mechanical 5:
  region: 158.15,-96 -158.15,-96 -158.15,96 158.15,96
Mechanical 7:
  lines w1: -202.47,19.68 -87.47,19.68 ; -202.47,39.37 -87.47,39.37 ; -187.47,-30.32 -187.47,19.68 ; -187.47,89.37 -187.47,39.37 ; -151.5,-136 -101.5,-136 ; -111,136 -61,136 ; -101.5,-151 -101.5,0 -101.5,226 ; -69.5,-151 -69.5,0 ; -61,0 -61,151 ; -19.5,-136 -69.5,-136 ; 0,-61 176,-61 ; 0,61 176,61 ; 61,0 61,151 ; 101.5,0 101.5,226 ; 111,136 61,136 ; 161,-111 161,-61 ; 161,111 161,61 ; -187.47,19.68 -182.47,9.69 -192.47,9.69 -187.47,19.68 ; -187.47,39.37 -182.47,49.37 -192.47,49.37 -187.47,39.37 ; -101.5,-136 -111.5,-141 -111.5,-131 -101.5,-136 ; -101.5,211 -91.5,206 -91.5,216 -101.5,211 ; -101.5,211 101.5,211 ; -69.5,-136 -59.5,-141 -59.5,-131 -69.5,-136 ; -61,136 -71,131 -71,141 -61,136 ; 61,136 71,131 71,141 61,136 ; 101.5,211 91.5,206 91.5,216 101.5,211 ; 161,-61 166,-71 156,-71 161,-61 ; 161,61 166,71 156,71 161,61
  text "0.032in/0.813mm" at -179.25,-181 h25
  text "0.02in/0.5mm" at -357.47,17.03 h25
  text "0.122in/3.099mm" at 181,-12.5 h25
  text "0.203in/5.156mm" at -93.75,231 h25
  text "0.122in/3.099mm" at -93.75,156 h25
  text "Alt 2 Padstyle: b229_152h76" at -337.5,-561 h50
  text "Alt 1 Padstyle: b152_229h76" at -337.5,-501 h50
  text "Pin One Padstyle: r181_33" at -312.5,-321 h50
  text "Default Padstyle: r181_33" at -312.5,-261 h50
Mechanical 13:
  lines w0: -12,61 ccw(c0,61) 12,61
  lines w1: -101.5,-45.87 -61,-45.87 -61,-32.87 -101.5,-32.87 -101.5,-45.87 ; -101.5,-26.18 -61,-26.18 -61,-13.19 -101.5,-13.19 -101.5,-26.18 ; -101.5,-6.5 -61,-6.5 -61,6.5 -101.5,6.5 -101.5,-6.5 ; -101.5,13.19 -61,13.19 -61,26.18 -101.5,26.18 -101.5,13.19 ; -101.5,32.87 -61,32.87 -61,45.87 -101.5,45.87 -101.5,32.87 ; -61,-61 -61,61 61,61 61,-61 -61,-61 ; 61,-45.87 101.5,-45.87 101.5,-32.87 61,-32.87 61,-45.87 ; 61,-26.18 101.5,-26.18 101.5,-13.19 61,-13.19 61,-26.18 ; 61,-6.5 101.5,-6.5 101.5,6.5 61,6.5 61,-6.5 ; 61,13.19 101.5,13.19 101.5,26.18 61,26.18 61,13.19 ; 61,32.87 101.5,32.87 101.5,45.87 61,45.87 61,32.87
  text "*" at -58.5,8 h50
Mechanical 15:
  region: -81,-65.87 -143.15,-65.87 -143.15,65.87 -81,65.87 -81,81 81,81 81,65.87 143.15,65.87 143.15,-65.87 81,-65.87 81,-81 -81,-81
  lines w6: -143.15,-65.87 -81,-65.87 -81,-81 81,-81 81,-65.87 143.15,-65.87 143.15,65.87 81,65.87 81,81 -81,81 -81,65.87 -143.15,65.87 -143.15,-65.87
3D body: height 10, standoff 0, extent 0,0 10,10
3D body "RM_10_ADI.step": height 43.11, standoff 0, extent -101.5,-60.99 101.5,60.99

## RVQ0042A [mm]
pads (56):
  rect 1.65x1.65 smd paste-0.225 mask+0.051: 1(-4.575,4.575) 11(-4.575,-4.575) 21(4.575,-4.575) 31(4.575,4.575)
  rect 0.95x0.5 smd paste-0.025 mask+0.051: 2(-4.925,3.2) 3(-4.925,2.4) 4(-4.925,1.6) 5(-4.925,0.8) 6(-4.925,0) 7(-4.925,-0.8) 8(-4.925,-1.6) 9(-4.925,-2.4) 10(-4.925,-3.2) 22(4.925,-3.2) 23(4.925,-2.4) 24(4.925,-1.6) 25(4.925,-0.8) 26(4.925,0) 27(4.925,0.8) 28(4.925,1.6) 29(4.925,2.4) 30(4.925,3.2)
  rect 0.5x0.95 smd paste-0.025 mask+0.051: 12(-3.2,-4.925) 13(-2.4,-4.925) 14(-1.6,-4.925) 15(-0.8,-4.925) 16(0,-4.925) 17(0.8,-4.925) 18(1.6,-4.925) 19(2.4,-4.925) 20(3.2,-4.925) 32(3.2,4.925) 33(2.4,4.925) 34(1.6,4.925) 35(0.8,4.925) 36(0,4.925) 37(-0.8,4.925) 38(-1.6,4.925) 39(-2.4,4.925) 40(-3.2,4.925)
  rect 3.29x1.4 smd paste-1.632 mask+0.051: 41(0,3.55)
  rect 3.29x1.4 smd paste-1.632 mask+0: 42(0,-3.55)
  round 0.5 hole 0.305 mask-0.152: V(-1.342,-2.55) V(-0.563,-2.55) V(-0.563,-1.77) V(-0.563,-0.99) V(-0.563,-0.21) V(-0.563,0.57) V(-0.563,1.35) V(0.563,-2.55) V(0.563,-1.77) V(0.563,-0.99) V(0.563,-0.21) V(0.563,0.57) V(0.563,1.35) V(1.342,-2.55)
Top Layer:
  region: -1.645,-4.25 -1.645,-2.25 -0.863,-2.25 -0.863,1.8 0.863,1.8 0.863,-2.25 1.645,-2.25 1.645,-4.25
Top Overlay:
  lines w0.2: -5.65,-4.875 -5.65,-5.65 -4.875,-5.65 ; 4.875,-5.65 5.65,-5.65 5.65,-4.875 ; 4.875,5.65 5.65,5.65 5.65,4.875
  lines w0.203: -5.65,4 -5.65,5.65 -3.9,5.65
Top Paste:
  region: 0.15,-3.4 1.62,-3.4 1.62,-2.87 0.15,-2.87
  region: 0.15,-4.23 1.62,-4.23 1.62,-3.7 0.15,-3.7
  region: -1.62,-4.23 -0.15,-4.23 -0.15,-3.7 -1.62,-3.7
  region: -1.62,-3.4 -0.15,-3.4 -0.15,-2.87 -1.62,-2.87
  region: -0.238,-2.518 0.238,-2.518 0.238,-1.288 -0.238,-1.288
  region: -0.238,-0.988 0.238,-0.988 0.238,0.242 -0.238,0.242
  region: -0.238,0.543 0.238,0.543 0.238,1.773 -0.238,1.773
  region: 0.15,3.7 1.62,3.7 1.62,4.23 0.15,4.23
  region: 0.15,2.87 1.62,2.87 1.62,3.4 0.15,3.4
  region: -1.62,2.87 -0.15,2.87 -0.15,3.4 -1.62,3.4
  region: -1.62,3.7 -0.15,3.7 -0.15,4.23 -1.62,4.23
Top Solder:
  region: 1.645,-2.85 1.645,-4.25 -1.645,-4.25 -1.645,-2.85 -0.262,-2.85 -0.262,1.8 0.263,1.8 0.263,-2.85
Mechanical 13:
  circle w0.1: c-3.989,4.1 r0.329
  lines w0.1: -5.075,-5.075 5.075,-5.075 5.075,5.075 -5.075,5.075 -5.075,-5.075
3D body "RVQ0042A.stp": height 4.2, standoff 0, extent -5,-5 5,5
3D body: height 0.25, standoff 0, extent 0,0 0.254,0.254

## SO-8_S_LIT [mm]
pads (8):
  rect 1.455x0.533 smd paste+0 mask+0: 1(-2.721,1.905) 2(-2.721,0.635) 3(-2.721,-0.635) 4(-2.721,-1.905) 5(2.721,-1.905) 6(2.721,-0.635) 7(2.721,0.635) 8(2.721,1.905)
Top Overlay:
  lines w0.152: -2.121,-2.629 2.121,-2.629 ; -2.121,2.629 2.121,2.629
  text "*" at -3.293,2.311 h1.27
Mechanical 5:
  region: 4.084,-3.137 -4.084,-3.137 -4.084,3.137 4.084,3.137
Mechanical 13:
  lines w0: -0.305,2.502 ccw(c0,2.502) 0.305,2.502
  lines w0.025: -3.099,-2.146 -3.099,-1.664 -1.994,-1.664 -1.994,-2.146 -3.099,-2.146 ; -3.099,-0.876 -3.099,-0.394 -1.994,-0.394 -1.994,-0.876 -3.099,-0.876 ; -3.099,0.394 -3.099,0.876 -1.994,0.876 -1.994,0.394 -3.099,0.394 ; -3.099,1.664 -3.099,2.146 -1.994,2.146 -1.994,1.664 -3.099,1.664 ; -1.994,-2.502 1.994,-2.502 1.994,2.502 -1.994,2.502 -1.994,-2.502 ; 1.994,-2.146 1.994,-1.664 3.099,-1.664 3.099,-2.146 1.994,-2.146 ; 1.994,-0.876 1.994,-0.394 3.099,-0.394 3.099,-0.876 1.994,-0.876 ; 1.994,0.394 1.994,0.876 3.099,0.876 3.099,0.394 1.994,0.394 ; 1.994,1.664 1.994,2.146 3.099,2.146 3.099,1.664 1.994,1.664
  text "*" at -1.93,1.156 h1.27
Mechanical 15:
  region: -2.248,-2.425 -3.703,-2.425 -3.703,2.425 -2.248,2.425 -2.248,2.756 2.248,2.756 2.248,2.425 3.703,2.425 3.703,-2.425 2.248,-2.425 2.248,-2.756 -2.248,-2.756
  lines w0.152: -3.703,-2.425 -3.703,2.425 -2.248,2.425 -2.248,2.756 2.248,2.756 2.248,2.425 3.703,2.425 3.703,-2.425 2.248,-2.425 2.248,-2.756 -2.248,-2.756 -2.248,-2.425 -3.703,-2.425
3D body: height 0.25, standoff 0, extent 0,0 0.254,0.254
3D body "SO-8_S_LIT.step": height 1.76, standoff 0, extent -3.099,-2.502 3.099,2.502

## SO-8_S_LIT-L [mil]
pads (8):
  rect 49.41x19 smd paste+0 mask+0: 1(-103.2,75) 2(-103.2,25) 3(-103.2,-25) 4(-103.2,-75) 5(103.2,-75) 6(103.2,-25) 7(103.2,25) 8(103.2,75)
Top Overlay:
  lines w6: -83.5,-103.5 83.5,-103.5 ; -83.5,103.5 83.5,103.5
  text "*" at -125.7,89 h50
Mechanical 5:
  region: 146.91,-117.5 -146.91,-117.5 -146.91,117.5 146.91,117.5
Mechanical 7:
  lines w1: -218.2,25 -103.2,25 ; -218.2,75 -103.2,75 ; -203.2,-25 -203.2,25 ; -203.2,125 -203.2,75 ; -172,-173.5 -122,-173.5 ; -122,-188.5 -122,0 -122,263.5 ; -78.5,-188.5 -78.5,0 -78.5,188.5 ; -28.5,-173.5 -78.5,-173.5 ; 0,-98.5 193.5,-98.5 ; 0,98.5 193.5,98.5 ; 78.5,0 78.5,188.5 ; 122,0 122,263.5 ; -203.2,25 -208.2,15 -198.2,15 -203.2,25 ; -203.2,75 -208.2,85 -198.2,85 -203.2,75 ; -122,-173.5 -132,-168.5 -132,-178.5 -122,-173.5 ; -122,248.5 122,248.5 ; -122,248.5 -112,253.5 -112,243.5 -122,248.5 ; -78.5,-173.5 -68.5,-168.5 -68.5,-178.5 -78.5,-173.5 ; -78.5,173.5 78.5,173.5 ; -78.5,173.5 -68.5,178.5 -68.5,168.5 -78.5,173.5 ; 78.5,173.5 68.5,178.5 68.5,168.5 78.5,173.5 ; 122,248.5 112,253.5 112,243.5 122,248.5 ; 178.5,-98.5 178.5,98.5 ; 178.5,-98.5 173.5,-88.5 183.5,-88.5 178.5,-98.5 ; 178.5,98.5 173.5,88.5 183.5,88.5 178.5,98.5
  text "Default Padstyle: r125_48" at -312.5,-298.5 h50
  text "Pin One Padstyle: r125_48" at -312.5,-358.5 h50
  text "Alt 1 Padstyle: b152_229h76" at -337.5,-538.5 h50
  text "Alt 2 Padstyle: b229_152h76" at -337.5,-598.5 h50
  text "0.157in/3.988mm" at -93.75,193.5 h25
  text "0.244in/6.198mm" at -93.75,268.5 h25
  text "0.197in/5.004mm" at 198.5,-12.5 h25
  text "0.05in/1.27mm" at -385.7,37.5 h25
  text "0.05in/1.27mm" at -181.5,-218.5 h25
Mechanical 13:
  lines w0: -12,98.5 ccw(c0,98.5) 12,98.5
  lines w1: -122,-84.5 -122,-65.5 -78.5,-65.5 -78.5,-84.5 -122,-84.5 ; -122,-34.5 -122,-15.5 -78.5,-15.5 -78.5,-34.5 -122,-34.5 ; -122,15.5 -122,34.5 -78.5,34.5 -78.5,15.5 -122,15.5 ; -122,65.5 -122,84.5 -78.5,84.5 -78.5,65.5 -122,65.5 ; -78.5,-98.5 78.5,-98.5 78.5,98.5 -78.5,98.5 -78.5,-98.5 ; 78.5,-84.5 78.5,-65.5 122,-65.5 122,-84.5 78.5,-84.5 ; 78.5,-34.5 78.5,-15.5 122,-15.5 122,-34.5 78.5,-34.5 ; 78.5,15.5 78.5,34.5 122,34.5 122,15.5 78.5,15.5 ; 78.5,65.5 78.5,84.5 122,84.5 122,65.5 78.5,65.5
  text "*" at -76,45.5 h50
Mechanical 15:
  region: -82.5,-88.5 -131.91,-88.5 -131.91,88.5 -82.5,88.5 -82.5,102.5 82.5,102.5 82.5,88.5 131.91,88.5 131.91,-88.5 82.5,-88.5 82.5,-102.5 -82.5,-102.5
  lines w6: -131.91,-88.5 -131.91,88.5 -82.5,88.5 -82.5,102.5 82.5,102.5 82.5,88.5 131.91,88.5 131.91,-88.5 82.5,-88.5 82.5,-102.5 -82.5,-102.5 -82.5,-88.5 -131.91,-88.5
3D body: height 10, standoff 0, extent 0,0 10,10
3D body "SO-8_S_LIT.step": height 69.09, standoff 0, extent -122.01,-98.5 122,98.5

## SO-8_S_LIT-M [mm]
pads (8):
  rect 1.655x0.533 smd paste+0 mask+0: 1(-2.821,1.905) 2(-2.821,0.635) 3(-2.821,-0.635) 4(-2.821,-1.905) 5(2.821,-1.905) 6(2.821,-0.635) 7(2.821,0.635) 8(2.821,1.905)
Top Overlay:
  lines w0.152: -2.121,-2.629 2.121,-2.629 ; -2.121,2.629 2.121,2.629
  text "*" at -3.393,2.311 h1.27
Mechanical 5:
  region: 4.538,-3.391 -4.538,-3.391 -4.538,3.391 4.538,3.391
Mechanical 7:
  lines w0.025: -5.742,0.635 -2.821,0.635 ; -5.742,1.905 -2.821,1.905 ; -5.361,-0.635 -5.361,0.635 ; -5.361,3.175 -5.361,1.905 ; -4.369,-4.407 -3.099,-4.407 ; -3.099,-4.788 -3.099,0 -3.099,6.693 ; -1.994,-4.788 -1.994,0 -1.994,4.788 ; -0.724,-4.407 -1.994,-4.407 ; 0,-2.502 4.915,-2.502 ; 0,2.502 4.915,2.502 ; 1.994,0 1.994,4.788 ; 3.099,0 3.099,6.693 ; -5.361,0.635 -5.234,0.381 -5.488,0.381 -5.361,0.635 ; -5.361,1.905 -5.234,2.159 -5.488,2.159 -5.361,1.905 ; -3.099,-4.407 -3.353,-4.534 -3.353,-4.28 -3.099,-4.407 ; -3.099,6.312 -2.845,6.185 -2.845,6.439 -3.099,6.312 ; -3.099,6.312 3.099,6.312 ; -1.994,-4.407 -1.74,-4.534 -1.74,-4.28 -1.994,-4.407 ; -1.994,4.407 -1.74,4.28 -1.74,4.534 -1.994,4.407 ; -1.994,4.407 1.994,4.407 ; 1.994,4.407 1.74,4.28 1.74,4.534 1.994,4.407 ; 3.099,6.312 2.845,6.185 2.845,6.439 3.099,6.312 ; 4.534,-2.502 4.661,-2.248 4.407,-2.248 4.534,-2.502 ; 4.534,-2.502 4.534,2.502 ; 4.534,2.502 4.661,2.248 4.407,2.248 4.534,2.502
  text "0.05in/1.27mm" at -4.61,-5.55 h0.64
  text "0.05in/1.27mm" at -9.997,0.953 h0.64
  text "0.197in/5.004mm" at 5.042,-0.318 h0.64
  text "0.244in/6.198mm" at -2.381,6.82 h0.64
  text "0.157in/3.988mm" at -2.381,4.915 h0.64
  text "Alt 2 Padstyle: b229_152h76" at -8.572,-15.202 h1.27
  text "Alt 1 Padstyle: b152_229h76" at -8.572,-13.678 h1.27
  text "Pin One Padstyle: r165_53" at -7.938,-9.106 h1.27
  text "Default Padstyle: r165_53" at -7.938,-7.582 h1.27
Mechanical 13:
  lines w0: -0.305,2.502 ccw(c0,2.502) 0.305,2.502
  lines w0.025: -3.099,-2.146 -1.994,-2.146 -1.994,-1.664 -3.099,-1.664 -3.099,-2.146 ; -3.099,-0.876 -1.994,-0.876 -1.994,-0.394 -3.099,-0.394 -3.099,-0.876 ; -3.099,0.394 -1.994,0.394 -1.994,0.876 -3.099,0.876 -3.099,0.394 ; -3.099,1.664 -1.994,1.664 -1.994,2.146 -3.099,2.146 -3.099,1.664 ; -1.994,-2.502 -1.994,2.502 1.994,2.502 1.994,-2.502 -1.994,-2.502 ; 1.994,-2.146 3.099,-2.146 3.099,-1.664 1.994,-1.664 1.994,-2.146 ; 1.994,-0.876 3.099,-0.876 3.099,-0.394 1.994,-0.394 1.994,-0.876 ; 1.994,0.394 3.099,0.394 3.099,0.876 1.994,0.876 1.994,0.394 ; 1.994,1.664 3.099,1.664 3.099,2.146 1.994,2.146 1.994,1.664
  text "*" at -1.93,1.156 h1.27
Mechanical 15:
  region: -2.502,-2.679 -4.157,-2.679 -4.157,2.679 -2.502,2.679 -2.502,3.01 2.502,3.01 2.502,2.679 4.157,2.679 4.157,-2.679 2.502,-2.679 2.502,-3.01 -2.502,-3.01
  lines w0.152: -4.157,-2.679 -2.502,-2.679 -2.502,-3.01 2.502,-3.01 2.502,-2.679 4.157,-2.679 4.157,2.679 2.502,2.679 2.502,3.01 -2.502,3.01 -2.502,2.679 -4.157,2.679 -4.157,-2.679
3D body "SO-8_S_LIT.step": height 1.76, standoff 0, extent -3.099,-2.502 3.099,2.502
3D body: height 0.25, standoff 0, extent 0,0 0.254,0.254

## TSOT-23-5 [mm] "TSOT-23-5"
pads (5):
  rect 0.62x1.22 smd: 1(-1270.95,-1271.31) 2(-1270,-1271.3) 3(-1269.05,-1271.31) 4(-1269.05,-1268.69) 5(-1270.95,-1268.69)
Top Overlay:
  lines w0.254: -1271.4,-1270.4 -1271.4,-1269.6 ; -1268.6,-1270.4 -1268.6,-1269.6
3D body "TSOT-23-5.STEP": height 0.94, standoff -0.02, extent -1271.45,-1271.595 -1268.55,-1268.405